# EAGLE library part PAJ7025R2 (library Arsenio_Dev)
PixArt Multi Object Tracker with SPI interface. Used in RVLAPNxx Wii remotes
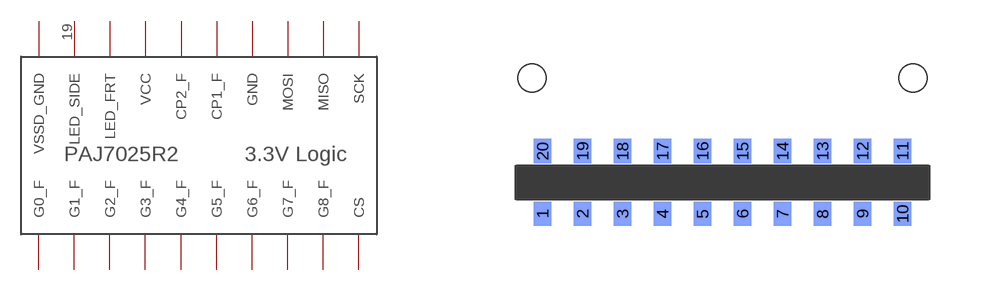
[diagram p14: symbol with the pads of PAJ7025R2; footprint PAJ7025R2]

Designator prefix -

## PAJ7025R2  [PAJ7025R2]
1  G0_F
2  G1_F
3  G2_F
4  G3_F
5  G4_F
6  G5_F
7  G6_F
8  G7_F
9  G8_F
10  CS
11  SCK
12  MISO
13  MOSI
14  GND
15  CP1_F
16  CP2_F
17  VCC
18  LED_FRT
19  LED_SIDE
20  VSSD_GND

## Footprint PAJ7025R2 (pad centres in mm)
smd 0.5 x 0.7 bottom: 1 -5.15,-1.15; 2 -4,-1.15; 3 -2.85,-1.15; 4 -1.7,-1.15; 5 -0.55,-1.15; 6 0.6,-1.15; 7 1.75,-1.15; 8 2.9,-1.15; 9 4.05,-1.15; 10 5.2,-1.15; 11 5.2,0.65; 12 4.05,0.65; 13 2.9,0.65; 14 1.75,0.65; 15 0.6,0.65; 16 -0.55,0.65; 17 -1.7,0.65; 18 -2.85,0.65; 19 -4,0.65; 20 -5.15,0.65
hole 0.8 at -5.45,2.75
hole 0.8 at 5.5,2.75